# Altium schematic symbol library TSW-104-02-S-S.Schlib: 1 symbol
Pins are listed as number, name and electrical type; pins without a type are passive.

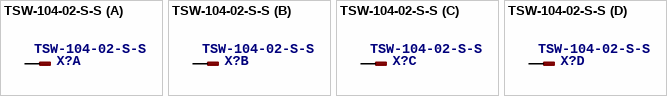
[diagram p0: symbol TSW-104-02-S-S]

## TSW-104-02-S-S
designator X?
OC_FARNELL: unknown; OC_NEWARK: unknown
footprint TSW-104-02-S-S
part A pins: 1
part B pins: 2 1
part C pins: 3 1
part D pins: 4 1